# Altium integrated library TI Amplifiers and Linear Operational Amplifier High Speed.IntLib: 1100 symbols (part 32 of 44)
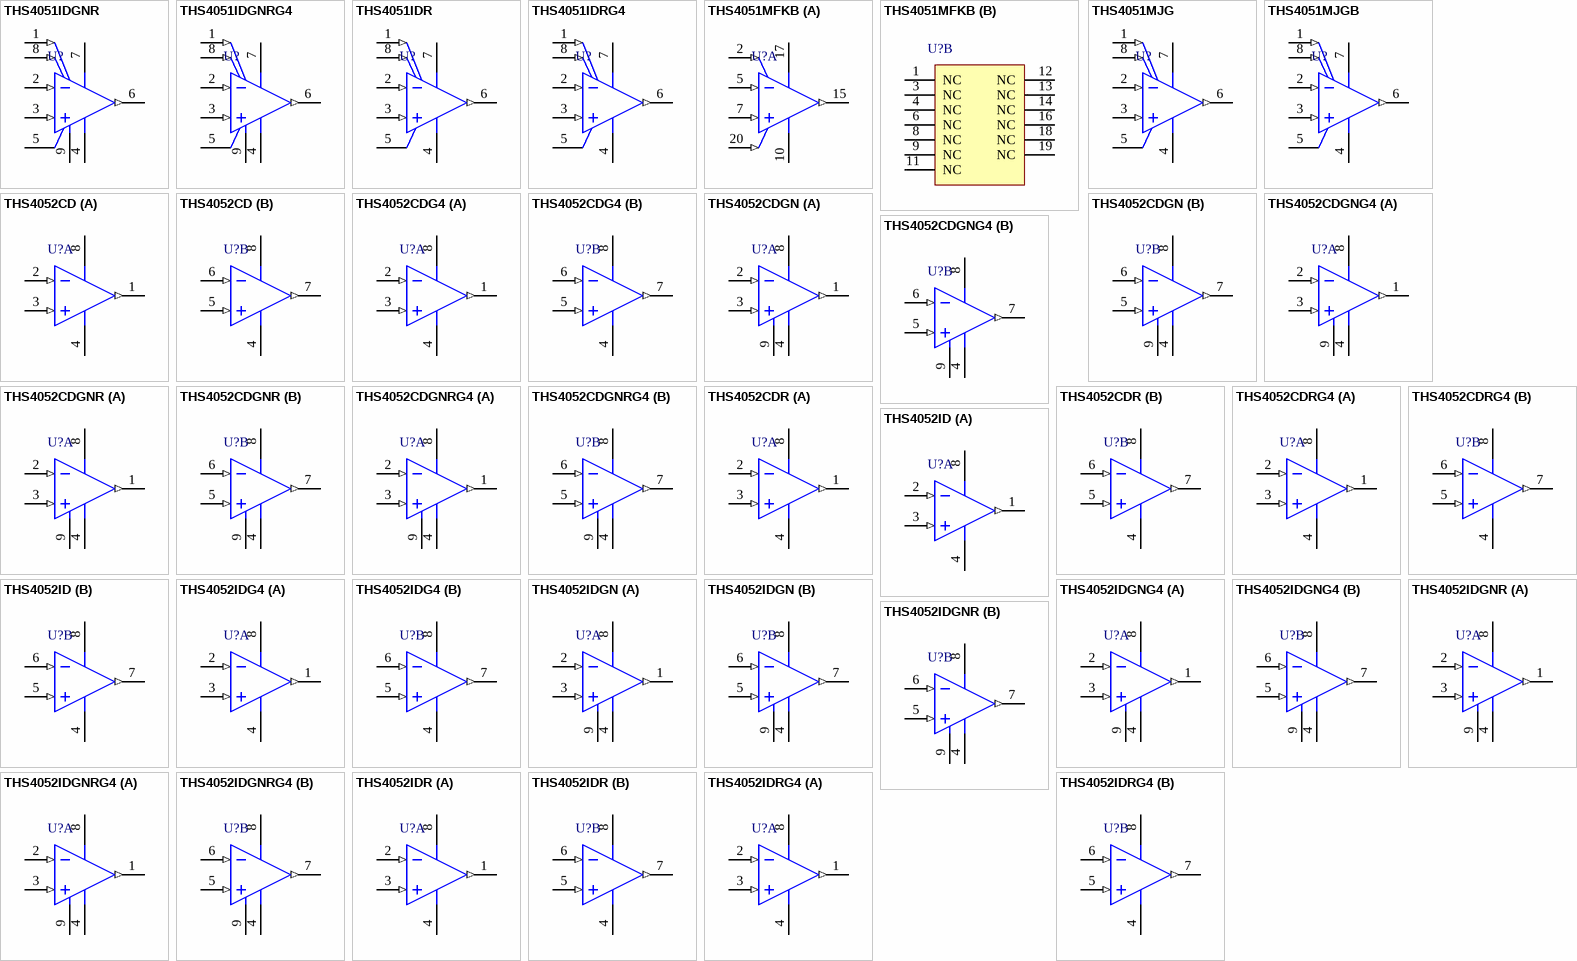
[diagram p82: symbols THS4051IDGNR to THS4052IDRG4]

## THS4052IDG4
designator U?
70 MHz Low-Cost Voltage-Feedback Amplifier, Dual, 9 to 32 V, -40 to 85 degC, 8-pin SOIC (D8), Green (RoHS & no Sb/Br); Manufacturer: Texas Instruments; PartNumber: THS4052IDG4; 2nd Harmonic(dBc): 84; 3rd Harmonic(dBc): 90; @ MHz: 1; BW @ Acl(MHz): 70; Diff Gain(%): 0.01; Iib(Max)(nA): 8000; Io(Typ)(mA): 100; Iq per channel(Max)(mA): 11.5; Number of Channels: 2; Settling Time (0.1%)(Typ)(ns): 60; Slew Rate(Typ)(V/us): 240; Sub Family: High Output Current Amplifier (>=50mA), High Speed Amplifier (>=50MHz), High Supply Voltage Amplifier (>=30V); THD (Fc is 1 MHz)(Typ)(dB): -82; Vio(Max)(mV): 10; Vn at Flatband(Typ)(nV/rtHz): 14; Vs(Max)(V): 32; Vs(Min)(V): 9; DatasheetVersion: SLOS238D; PackageVersion: 4040047-3/M, 06/2011; PackageReference: D8; PackageDescription: 8-Pin Plastic Small Outline, Body 4.9 x 3.9 mm, Pitch 1.27 mm; Supplier 1: Digi-Key; Supplier Part Number 1: THS4052IDG4-ND; Supplier 2: Mouser; Supplier Part Number 2: 595-THS4052IDG4; Acl, min stable gain(V/V): 1; Diff Phase(deg): 0.01; Eco-Plan: Green (RoHS & no Sb/Br); Mounting Technology: Surface Mount; Code_JEDEC: MS-012; ComponentLink1Description: Manufacturer URL; ComponentLink1URL: http://www.ti.com/; ComponentLink2Description: Datasheet; ComponentLink2URL: http://www.ti.com/general/docs/lit/getliterature.tsp?genericPartNumber=THS4052&fileType=pdf; ComponentLink3Description: Package Specification; ComponentLink3URL: http://www.ti.com/litv/pdf/msoi002j
footprint TI-D8_N (SOIC, 8-Leads, Body 4.9x3.9mm, Pitch 1.27mm, IPC Medium Density)
footprint TI-D8_L (SOIC, 8-Leads, Body 4.9x3.9mm, Pitch 1.27mm, IPC High Density)
footprint TI-D8_M (SOIC, 8-Leads, Body 4.9x3.9mm, Pitch 1.27mm, IPC Low Density)
pins on every part: 4 VCC- (power), 8 VCC+ (power)
part A pins: 1 OUT1 (out), 2 IN1- (in), 3 IN1+ (in)
part B pins: 5 IN2+ (in), 6 IN2- (in), 7 OUT2 (out)

## THS4052IDGN
designator U?
70 MHz Low-Cost Voltage-Feedback Amplifier, Dual, 9 to 32 V, -40 to 85 degC, 8-pin SOP (DGN8), Green (RoHS & no Sb/Br); Manufacturer: Texas Instruments; PartNumber: THS4052IDGN; 2nd Harmonic(dBc): 84; 3rd Harmonic(dBc): 90; @ MHz: 1; BW @ Acl(MHz): 70; Diff Gain(%): 0.01; Iib(Max)(nA): 8000; Io(Typ)(mA): 100; Iq per channel(Max)(mA): 11.5; Number of Channels: 2; Settling Time (0.1%)(Typ)(ns): 60; Slew Rate(Typ)(V/us): 240; Sub Family: High Output Current Amplifier (>=50mA), High Speed Amplifier (>=50MHz), High Supply Voltage Amplifier (>=30V); THD (Fc is 1 MHz)(Typ)(dB): -82; Vio(Max)(mV): 10; Vn at Flatband(Typ)(nV/rtHz): 14; Vs(Max)(V): 32; Vs(Min)(V): 9; DatasheetVersion: SLOS238D; PackageVersion: 4073271/F, 05/2011; PackageReference: DGN8-1760X1425TP; PackageDescription: 8-pin Plastic Small Outline, Body 3 x 3 mm, Pitch 0.65 mm; Supplier 1: Digi-Key; Supplier Part Number 1: 296-34209-5-ND; Supplier 2: Newark; Supplier Part Number 2: 76C6348; Supplier 3: Mouser; Supplier Part Number 3: 595-THS4052IDGN; Acl, min stable gain(V/V): 1; Diff Phase(deg): 0.01; Eco-Plan: Green (RoHS & no Sb/Br); Mounting Technology: Surface Mount; Code_JEDEC: MO-187; ComponentLink1Description: Manufacturer URL; ComponentLink1URL: http://www.ti.com/; ComponentLink2Description: Datasheet; ComponentLink2URL: http://www.ti.com/general/docs/lit/getliterature.tsp?genericPartNumber=THS4052&fileType=pdf; ComponentLink3Description: Package Specification; ComponentLink3URL: http://www.ti.com/litv/pdf/mpds046e
footprint TI-DGN8-1760X1425TP_N (SOP, 8-Leads, Body 3x3mm, Pitch 0.65mm, Thermal Pad 1.76x1.425mm, IPC Medium Density)
footprint TI-DGN8-1760X1425TP_L (SOP, 8-Leads, Body 3x3mm, Pitch 0.65mm, Thermal Pad 1.76x1.425mm, IPC High Density)
footprint TI-DGN8-1760X1425TP_M (SOP, 8-Leads, Body 3x3mm, Pitch 0.65mm, Thermal Pad 1.76 x 1.425 mm, IPC Low Density)
pins on every part: 4 VCC- (power), 8 VCC+ (power), 9 EP
part A pins: 1 OUT1 (out), 2 IN1- (in), 3 IN1+ (in)
part B pins: 5 IN2+ (in), 6 IN2- (in), 7 OUT2 (out)

## THS4052IDGNG4
designator U?
70 MHz Low-Cost Voltage-Feedback Amplifier, Dual, 9 to 32 V, -40 to 85 degC, 8-pin SOP (DGN8), Green (RoHS & no Sb/Br); Manufacturer: Texas Instruments; PartNumber: THS4052IDGNG4; 2nd Harmonic(dBc): 84; 3rd Harmonic(dBc): 90; @ MHz: 1; BW @ Acl(MHz): 70; Diff Gain(%): 0.01; Iib(Max)(nA): 8000; Io(Typ)(mA): 100; Iq per channel(Max)(mA): 11.5; Number of Channels: 2; Settling Time (0.1%)(Typ)(ns): 60; Slew Rate(Typ)(V/us): 240; Sub Family: High Output Current Amplifier (>=50mA), High Speed Amplifier (>=50MHz), High Supply Voltage Amplifier (>=30V); THD (Fc is 1 MHz)(Typ)(dB): -82; Vio(Max)(mV): 10; Vn at Flatband(Typ)(nV/rtHz): 14; Vs(Max)(V): 32; Vs(Min)(V): 9; DatasheetVersion: SLOS238D; PackageVersion: 4073271/F, 05/2011; PackageReference: DGN8-1760X1425TP; PackageDescription: 8-pin Plastic Small Outline, Body 3 x 3 mm, Pitch 0.65 mm; Supplier 1: Digi-Key; Supplier Part Number 1: THS4052IDGNG4-ND; Supplier 2: Mouser; Supplier Part Number 2: 595-THS4052IDGNG4; Acl, min stable gain(V/V): 1; Diff Phase(deg): 0.01; Eco-Plan: Green (RoHS & no Sb/Br); Mounting Technology: Surface Mount; Code_JEDEC: MO-187; ComponentLink1Description: Manufacturer URL; ComponentLink1URL: http://www.ti.com/; ComponentLink2Description: Datasheet; ComponentLink2URL: http://www.ti.com/general/docs/lit/getliterature.tsp?genericPartNumber=THS4052&fileType=pdf; ComponentLink3Description: Package Specification; ComponentLink3URL: http://www.ti.com/litv/pdf/mpds046e
footprint TI-DGN8-1760X1425TP_N (SOP, 8-Leads, Body 3x3mm, Pitch 0.65mm, Thermal Pad 1.76x1.425mm, IPC Medium Density)
footprint TI-DGN8-1760X1425TP_L (SOP, 8-Leads, Body 3x3mm, Pitch 0.65mm, Thermal Pad 1.76x1.425mm, IPC High Density)
footprint TI-DGN8-1760X1425TP_M (SOP, 8-Leads, Body 3x3mm, Pitch 0.65mm, Thermal Pad 1.76 x 1.425 mm, IPC Low Density)
pins on every part: 4 VCC- (power), 8 VCC+ (power), 9 EP
part A pins: 1 OUT1 (out), 2 IN1- (in), 3 IN1+ (in)
part B pins: 5 IN2+ (in), 6 IN2- (in), 7 OUT2 (out)

## THS4052IDGNR
designator U?
70 MHz Low-Cost Voltage-Feedback Amplifier, Dual, 9 to 32 V, -40 to 85 degC, 8-pin SOP (DGN8), Green (RoHS & no Sb/Br); Manufacturer: Texas Instruments; PartNumber: THS4052IDGNR; 2nd Harmonic(dBc): 84; 3rd Harmonic(dBc): 90; @ MHz: 1; BW @ Acl(MHz): 70; Diff Gain(%): 0.01; Iib(Max)(nA): 8000; Io(Typ)(mA): 100; Iq per channel(Max)(mA): 11.5; Number of Channels: 2; Settling Time (0.1%)(Typ)(ns): 60; Slew Rate(Typ)(V/us): 240; Sub Family: High Output Current Amplifier (>=50mA), High Speed Amplifier (>=50MHz), High Supply Voltage Amplifier (>=30V); THD (Fc is 1 MHz)(Typ)(dB): -82; Vio(Max)(mV): 10; Vn at Flatband(Typ)(nV/rtHz): 14; Vs(Max)(V): 32; Vs(Min)(V): 9; DatasheetVersion: SLOS238D; PackageVersion: 4073271/F, 05/2011; PackageReference: DGN8-1760X1425TP; PackageDescription: 8-pin Plastic Small Outline, Body 3 x 3 mm, Pitch 0.65 mm; Supplier 1: Digi-Key; Supplier Part Number 1: 296-7540-2-ND; Supplier 2: Digi-Key; Supplier Part Number 2: 296-7540-1-ND; Supplier 3: Digi-Key; Supplier Part Number 3: 296-7540-6-ND; Supplier 4: Mouser; Supplier Part Number 4: 595-THS4052IDGNR; Acl, min stable gain(V/V): 1; Diff Phase(deg): 0.01; Eco-Plan: Green (RoHS & no Sb/Br); Mounting Technology: Surface Mount; Code_JEDEC: MO-187; ComponentLink1Description: Manufacturer URL; ComponentLink1URL: http://www.ti.com/; ComponentLink2Description: Datasheet; ComponentLink2URL: http://www.ti.com/general/docs/lit/getliterature.tsp?genericPartNumber=THS4052&fileType=pdf; ComponentLink3Description: Package Specification; ComponentLink3URL: http://www.ti.com/litv/pdf/mpds046e
footprint TI-DGN8-1760X1425TP_N (SOP, 8-Leads, Body 3x3mm, Pitch 0.65mm, Thermal Pad 1.76x1.425mm, IPC Medium Density)
footprint TI-DGN8-1760X1425TP_L (SOP, 8-Leads, Body 3x3mm, Pitch 0.65mm, Thermal Pad 1.76x1.425mm, IPC High Density)
footprint TI-DGN8-1760X1425TP_M (SOP, 8-Leads, Body 3x3mm, Pitch 0.65mm, Thermal Pad 1.76 x 1.425 mm, IPC Low Density)
pins on every part: 4 VCC- (power), 8 VCC+ (power), 9 EP
part A pins: 1 OUT1 (out), 2 IN1- (in), 3 IN1+ (in)
part B pins: 5 IN2+ (in), 6 IN2- (in), 7 OUT2 (out)

## THS4052IDGNRG4
designator U?
70 MHz Low-Cost Voltage-Feedback Amplifier, Dual, 9 to 32 V, -40 to 85 degC, 8-pin SOP (DGN8), Green (RoHS & no Sb/Br); Manufacturer: Texas Instruments; PartNumber: THS4052IDGNRG4; 2nd Harmonic(dBc): 84; 3rd Harmonic(dBc): 90; @ MHz: 1; BW @ Acl(MHz): 70; Diff Gain(%): 0.01; Iib(Max)(nA): 8000; Io(Typ)(mA): 100; Iq per channel(Max)(mA): 11.5; Number of Channels: 2; Settling Time (0.1%)(Typ)(ns): 60; Slew Rate(Typ)(V/us): 240; Sub Family: High Output Current Amplifier (>=50mA), High Speed Amplifier (>=50MHz), High Supply Voltage Amplifier (>=30V); THD (Fc is 1 MHz)(Typ)(dB): -82; Vio(Max)(mV): 10; Vn at Flatband(Typ)(nV/rtHz): 14; Vs(Max)(V): 32; Vs(Min)(V): 9; DatasheetVersion: SLOS238D; PackageVersion: 4073271/F, 05/2011; PackageReference: DGN8-1760X1425TP; PackageDescription: 8-pin Plastic Small Outline, Body 3 x 3 mm, Pitch 0.65 mm; Supplier 1: Digi-Key; Supplier Part Number 1: THS4052IDGNRG4-ND; Supplier 2: Mouser; Supplier Part Number 2: 595-THS4052IDGNRG4; Acl, min stable gain(V/V): 1; Diff Phase(deg): 0.01; Eco-Plan: Green (RoHS & no Sb/Br); Mounting Technology: Surface Mount; Code_JEDEC: MO-187; ComponentLink1Description: Manufacturer URL; ComponentLink1URL: http://www.ti.com/; ComponentLink2Description: Datasheet; ComponentLink2URL: http://www.ti.com/general/docs/lit/getliterature.tsp?genericPartNumber=THS4052&fileType=pdf; ComponentLink3Description: Package Specification; ComponentLink3URL: http://www.ti.com/litv/pdf/mpds046e
footprint TI-DGN8-1760X1425TP_N (SOP, 8-Leads, Body 3x3mm, Pitch 0.65mm, Thermal Pad 1.76x1.425mm, IPC Medium Density)
footprint TI-DGN8-1760X1425TP_L (SOP, 8-Leads, Body 3x3mm, Pitch 0.65mm, Thermal Pad 1.76x1.425mm, IPC High Density)
footprint TI-DGN8-1760X1425TP_M (SOP, 8-Leads, Body 3x3mm, Pitch 0.65mm, Thermal Pad 1.76 x 1.425 mm, IPC Low Density)
pins on every part: 4 VCC- (power), 8 VCC+ (power), 9 EP
part A pins: 1 OUT1 (out), 2 IN1- (in), 3 IN1+ (in)
part B pins: 5 IN2+ (in), 6 IN2- (in), 7 OUT2 (out)

## THS4052IDR
designator U?
70 MHz Low-Cost Voltage-Feedback Amplifier, Dual, 9 to 32 V, -40 to 85 degC, 8-pin SOIC (D8), Green (RoHS & no Sb/Br); Manufacturer: Texas Instruments; PartNumber: THS4052IDR; 2nd Harmonic(dBc): 84; 3rd Harmonic(dBc): 90; @ MHz: 1; BW @ Acl(MHz): 70; Diff Gain(%): 0.01; Iib(Max)(nA): 8000; Io(Typ)(mA): 100; Iq per channel(Max)(mA): 11.5; Number of Channels: 2; Settling Time (0.1%)(Typ)(ns): 60; Slew Rate(Typ)(V/us): 240; Sub Family: High Output Current Amplifier (>=50mA), High Speed Amplifier (>=50MHz), High Supply Voltage Amplifier (>=30V); THD (Fc is 1 MHz)(Typ)(dB): -82; Vio(Max)(mV): 10; Vn at Flatband(Typ)(nV/rtHz): 14; Vs(Max)(V): 32; Vs(Min)(V): 9; DatasheetVersion: SLOS238D; PackageVersion: 4040047-3/M, 06/2011; PackageReference: D8; PackageDescription: 8-Pin Plastic Small Outline, Body 4.9 x 3.9 mm, Pitch 1.27 mm; Supplier 1: Digi-Key; Supplier Part Number 1: THS4052IDR-ND; Supplier 2: Mouser; Supplier Part Number 2: 595-THS4052IDR; Acl, min stable gain(V/V): 1; Diff Phase(deg): 0.01; Eco-Plan: Green (RoHS & no Sb/Br); Mounting Technology: Surface Mount; Code_JEDEC: MS-012; ComponentLink1Description: Manufacturer URL; ComponentLink1URL: http://www.ti.com/; ComponentLink2Description: Datasheet; ComponentLink2URL: http://www.ti.com/general/docs/lit/getliterature.tsp?genericPartNumber=THS4052&fileType=pdf; ComponentLink3Description: Package Specification; ComponentLink3URL: http://www.ti.com/litv/pdf/msoi002j
footprint TI-D8_N (SOIC, 8-Leads, Body 4.9x3.9mm, Pitch 1.27mm, IPC Medium Density)
footprint TI-D8_L (SOIC, 8-Leads, Body 4.9x3.9mm, Pitch 1.27mm, IPC High Density)
footprint TI-D8_M (SOIC, 8-Leads, Body 4.9x3.9mm, Pitch 1.27mm, IPC Low Density)
pins on every part: 4 VCC- (power), 8 VCC+ (power)
part A pins: 1 OUT1 (out), 2 IN1- (in), 3 IN1+ (in)
part B pins: 5 IN2+ (in), 6 IN2- (in), 7 OUT2 (out)

## THS4052IDRG4
designator U?
70 MHz Low-Cost Voltage-Feedback Amplifier, Dual, 9 to 32 V, -40 to 85 degC, 8-pin SOIC (D8), Green (RoHS & no Sb/Br); Manufacturer: Texas Instruments; PartNumber: THS4052IDRG4; 2nd Harmonic(dBc): 84; 3rd Harmonic(dBc): 90; @ MHz: 1; BW @ Acl(MHz): 70; Diff Gain(%): 0.01; Iib(Max)(nA): 6000; Io(Typ)(mA): 100; Iq per channel(Max)(mA): 10.5; Number of Channels: 2; Settling Time (0.1%)(Typ)(ns): 60; Slew Rate(Typ)(V/us): 240; Sub Family: High Output Current Amplifier (>=50mA), High Speed Amplifier (>=50MHz), High Supply Voltage Amplifier (>=30V); THD (Fc is 1 MHz)(Typ)(dB): -82; Vio(Max)(mV): 10; Vn at Flatband(Typ)(nV/rtHz): 14; Vs(Max)(V): 32; Vs(Min)(V): 9; DatasheetVersion: SLOS238D; PackageVersion: 4040047-3/M, 06/2011; PackageReference: D8; PackageDescription: 8-Pin Plastic Small Outline, Body 4.9 x 3.9 mm, Pitch 1.27 mm; Supplier 1: Digi-Key; Supplier Part Number 1: THS4052IDRG4-ND; Supplier 2: Mouser; Supplier Part Number 2: 595-THS4052IDRG4; Acl, min stable gain(V/V): 1; Diff Phase(deg): 0.01; Eco-Plan: Green (RoHS & no Sb/Br); Mounting Technology: Surface Mount; Code_JEDEC: MS-012; ComponentLink1Description: Manufacturer URL; ComponentLink1URL: http://www.ti.com/; ComponentLink2Description: Datasheet; ComponentLink2URL: http://www.ti.com/general/docs/lit/getliterature.tsp?genericPartNumber=THS4052&fileType=pdf; ComponentLink3Description: Package Specification; ComponentLink3URL: http://www.ti.com/litv/pdf/msoi002j
footprint TI-D8_N (SOIC, 8-Leads, Body 4.9x3.9mm, Pitch 1.27mm, IPC Medium Density)
footprint TI-D8_L (SOIC, 8-Leads, Body 4.9x3.9mm, Pitch 1.27mm, IPC High Density)
footprint TI-D8_M (SOIC, 8-Leads, Body 4.9x3.9mm, Pitch 1.27mm, IPC Low Density)
pins on every part: 4 VCC- (power), 8 VCC+ (power)
part A pins: 1 OUT1 (out), 2 IN1- (in), 3 IN1+ (in)
part B pins: 5 IN2+ (in), 6 IN2- (in), 7 OUT2 (out)

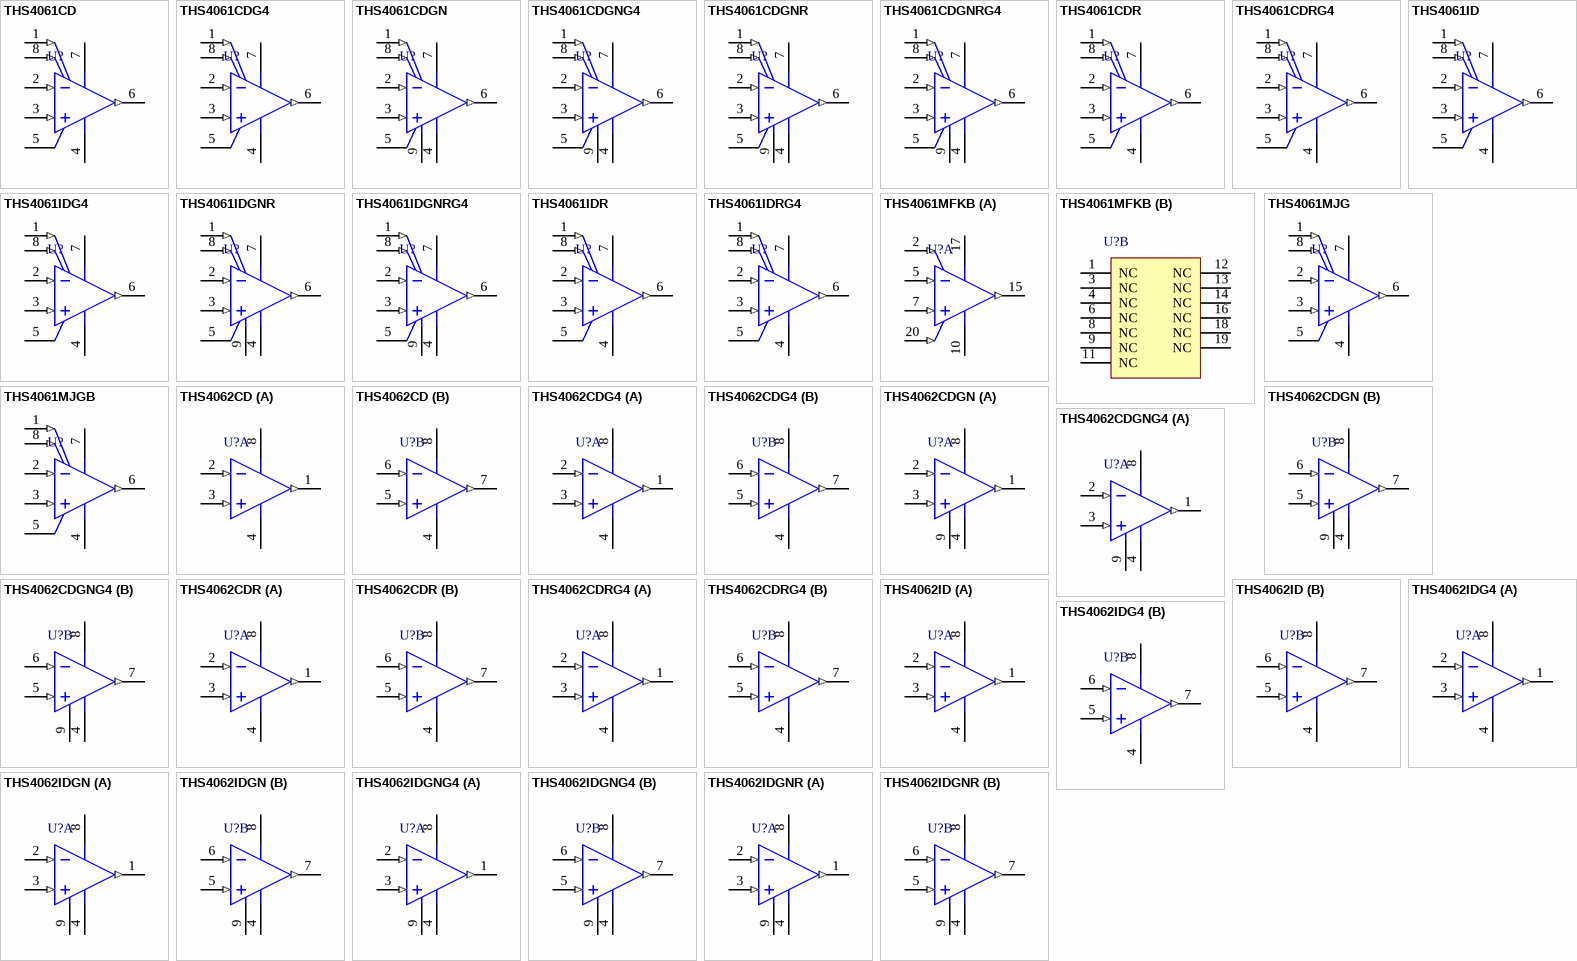
[diagram p37: symbols THS4061CD to THS4062IDGNR]

## THS4061CD
designator U?
180 MHz High Output Drive Voltage-Feedback Amplifier, 9 to 32 V, 0 to 70 degC, 8-pin SOIC (D8), Green (RoHS & no Sb/Br); Manufacturer: Texas Instruments; PartNumber: THS4061CD; 2nd Harmonic(dBc): 73; 3rd Harmonic(dBc): 88; @ MHz: 1; BW @ Acl(MHz): 180; Diff Gain(%): 0.02; Iib(Max)(nA): 6000; Io(Typ)(mA): 115; Iq per channel(Max)(mA): 11; Settling Time (0.1%)(Typ)(ns): 40; Slew Rate(Typ)(V/us): 400; Sub Family: High Output Current Amplifier (>=50mA), High Speed Amplifier (>=50MHz), High Supply Voltage Amplifier (>=30V); THD (Fc is 1 MHz)(Typ)(dB): -72; Vio(Max)(mV): 8; Vn at Flatband(Typ)(nV/rtHz): 14.5; Vs(Max)(V): 30; Vs(Min)(V): 10; DatasheetVersion: SLOS234E; PackageVersion: 4040047-3/M, 06/2011; PackageReference: D8; PackageDescription: 8-Pin Plastic Small Outline, Body 4.9 x 3.9 mm, Pitch 1.27 mm; Supplier 1: Digi-Key; Supplier Part Number 1: 296-2409-5-ND; Supplier 2: Newark; Supplier Part Number 2: 19C8976; Supplier 3: Mouser; Supplier Part Number 3: 595-THS4061CD; Acl, min stable gain(V/V): 1; Diff Phase(deg): 0.02; Eco-Plan: Green (RoHS & no Sb/Br); Number of Channels: 1; Mounting Technology: Surface Mount; Code_JEDEC: MS-012; ComponentLink1Description: Manufacturer URL; ComponentLink1URL: http://www.ti.com/; ComponentLink2Description: Datasheet; ComponentLink2URL: http://www.ti.com/general/docs/lit/getliterature.tsp?genericPartNumber=THS4061&fileType=pdf; ComponentLink3Description: Package Specification; ComponentLink3URL: http://www.ti.com/litv/pdf/msoi002j
footprint TI-D8_N (SOIC, 8-Leads, Body 4.9x3.9mm, Pitch 1.27mm, IPC Medium Density)
footprint TI-D8_L (SOIC, 8-Leads, Body 4.9x3.9mm, Pitch 1.27mm, IPC High Density)
footprint TI-D8_M (SOIC, 8-Leads, Body 4.9x3.9mm, Pitch 1.27mm, IPC Low Density)
pins: 1 NULL (in), 2 IN- (in), 3 IN+ (in), 4 VCC- (power), 5 NC, 6 OUT (out), 7 VCC+ (power), 8 NULL (in)

## THS4061CDG4
designator U?
180 MHz High Output Drive Voltage-Feedback Amplifier, 9 to 32 V, 0 to 70 degC, 8-pin SOIC (D8), Green (RoHS & no Sb/Br); Manufacturer: Texas Instruments; PartNumber: THS4061CDG4; 2nd Harmonic(dBc): 73; 3rd Harmonic(dBc): 88; @ MHz: 1; BW @ Acl(MHz): 180; Diff Gain(%): 0.02; Iib(Max)(nA): 6000; Io(Typ)(mA): 115; Iq per channel(Max)(mA): 10.5; Settling Time (0.1%)(Typ)(ns): 40; Slew Rate(Typ)(V/us): 400; Sub Family: High Output Current Amplifier (>=50mA), High Speed Amplifier (>=50MHz), High Supply Voltage Amplifier (>=30V); THD (Fc is 1 MHz)(Typ)(dB): -72; Vio(Max)(mV): 8; Vn at Flatband(Typ)(nV/rtHz): 14.5; Vs(Max)(V): 32; Vs(Min)(V): 9; DatasheetVersion: SLOS234E; PackageVersion: 4040047-3/M, 06/2011; PackageReference: D8; PackageDescription: 8-Pin Plastic Small Outline, Body 4.9 x 3.9 mm, Pitch 1.27 mm; Supplier 1: Digi-Key; Supplier Part Number 1: THS4061CDG4-ND; Supplier 2: Newark; Supplier Part Number 2: 54K0751; Supplier 3: Mouser; Supplier Part Number 3: 595-THS4061CDG4; Acl, min stable gain(V/V): 1; Diff Phase(deg): 0.02; Eco-Plan: Green (RoHS & no Sb/Br); Number of Channels: 1; Mounting Technology: Surface Mount; Code_JEDEC: MS-012; ComponentLink1Description: Manufacturer URL; ComponentLink1URL: http://www.ti.com/; ComponentLink2Description: Datasheet; ComponentLink2URL: http://www.ti.com/general/docs/lit/getliterature.tsp?genericPartNumber=THS4061&fileType=pdf; ComponentLink3Description: Package Specification; ComponentLink3URL: http://www.ti.com/litv/pdf/msoi002j
footprint TI-D8_N (SOIC, 8-Leads, Body 4.9x3.9mm, Pitch 1.27mm, IPC Medium Density)
footprint TI-D8_L (SOIC, 8-Leads, Body 4.9x3.9mm, Pitch 1.27mm, IPC High Density)
footprint TI-D8_M (SOIC, 8-Leads, Body 4.9x3.9mm, Pitch 1.27mm, IPC Low Density)
pins: 1 NULL (in), 2 IN- (in), 3 IN+ (in), 4 VCC- (power), 5 NC, 6 OUT (out), 7 VCC+ (power), 8 NULL (in)

## THS4061CDGN
designator U?
180 MHz High Output Drive Voltage-Feedback Amplifier, 9 to 32 V, 0 to 70 degC, 8-pin SOIC (DGN8), Green (RoHS & no Sb/Br); Manufacturer: Texas Instruments; PartNumber: THS4061CDGN; 2nd Harmonic(dBc): 73; 3rd Harmonic(dBc): 88; @ MHz: 1; BW @ Acl(MHz): 180; Diff Gain(%): 0.02; Iib(Max)(nA): 6000; Io(Typ)(mA): 115; Iq per channel(Max)(mA): 11; Settling Time (0.1%)(Typ)(ns): 40; Slew Rate(Typ)(V/us): 400; Sub Family: High Output Current Amplifier (>=50mA), High Speed Amplifier (>=50MHz), High Supply Voltage Amplifier (>=30V); THD (Fc is 1 MHz)(Typ)(dB): -72; Vio(Max)(mV): 8; Vn at Flatband(Typ)(nV/rtHz): 14.5; Vs(Max)(V): 32; Vs(Min)(V): 9; DatasheetVersion: SLOS234E; PackageVersion: 4073271/F, 05/2011; PackageReference: DGN8-1760X1425TP; PackageDescription: 8-pin Plastic Small Outline, Body 3 x 3 mm, Pitch 0.65 mm; Supplier 1: Digi-Key; Supplier Part Number 1: THS4061CDGN-ND; Supplier 2: Newark; Supplier Part Number 2: 76C6351; Supplier 3: Mouser; Supplier Part Number 3: 595-THS4061CDGN; Acl, min stable gain(V/V): 1; Diff Phase(deg): 0.02; Eco-Plan: Green (RoHS & no Sb/Br); Number of Channels: 1; Mounting Technology: Surface Mount; Code_JEDEC: MO-187; ComponentLink1Description: Manufacturer URL; ComponentLink1URL: http://www.ti.com/; ComponentLink2Description: Datasheet; ComponentLink2URL: http://www.ti.com/general/docs/lit/getliterature.tsp?genericPartNumber=THS4061&fileType=pdf; ComponentLink3Description: Package Specification; ComponentLink3URL: http://www.ti.com/litv/pdf/mpds046e
footprint TI-DGN8-1760X1425TP_N (SOP, 8-Leads, Body 3x3mm, Pitch 0.65mm, Thermal Pad 1.76x1.425mm, IPC Medium Density)
footprint TI-DGN8-1760X1425TP_L (SOP, 8-Leads, Body 3x3mm, Pitch 0.65mm, Thermal Pad 1.76x1.425mm, IPC High Density)
footprint TI-DGN8-1760X1425TP_M (SOP, 8-Leads, Body 3x3mm, Pitch 0.65mm, Thermal Pad 1.76 x 1.425 mm, IPC Low Density)
pins: 1 NULL (in), 2 IN- (in), 3 IN+ (in), 4 VCC- (power), 5 NC, 6 OUT (out), 7 VCC+ (power), 8 NULL (in), 9 EP

## THS4061CDGNG4
designator U?
180 MHz High Output Drive Voltage-Feedback Amplifier, 9 to 32 V, 0 to 70 degC, 8-pin SOIC (DGN8), Green (RoHS & no Sb/Br); Manufacturer: Texas Instruments; PartNumber: THS4061CDGNG4; 2nd Harmonic(dBc): 73; 3rd Harmonic(dBc): 88; @ MHz: 1; BW @ Acl(MHz): 180; Diff Gain(%): 0.02; Iib(Max)(nA): 6000; Io(Typ)(mA): 115; Iq per channel(Max)(mA): 11; Settling Time (0.1%)(Typ)(ns): 40; Slew Rate(Typ)(V/us): 400; Sub Family: High Output Current Amplifier (>=50mA), High Speed Amplifier (>=50MHz), High Supply Voltage Amplifier (>=30V); THD (Fc is 1 MHz)(Typ)(dB): -72; Vio(Max)(mV): 8; Vn at Flatband(Typ)(nV/rtHz): 14.5; Vs(Max)(V): 32; Vs(Min)(V): 9; DatasheetVersion: SLOS234E; PackageVersion: 4073271/F, 05/2011; PackageReference: DGN8-1760X1425TP; PackageDescription: 8-pin Plastic Small Outline, Body 3 x 3 mm, Pitch 0.65 mm; Supplier 1: Digi-Key; Supplier Part Number 1: THS4061CDGNG4-ND; Supplier 2: Mouser; Supplier Part Number 2: 595-THS4061CDGNG4; Acl, min stable gain(V/V): 1; Diff Phase(deg): 0.02; Eco-Plan: Green (RoHS & no Sb/Br); Number of Channels: 1; Mounting Technology: Surface Mount; Code_JEDEC: MO-187; ComponentLink1Description: Manufacturer URL; ComponentLink1URL: http://www.ti.com/; ComponentLink2Description: Datasheet; ComponentLink2URL: http://www.ti.com/general/docs/lit/getliterature.tsp?genericPartNumber=THS4061&fileType=pdf; ComponentLink3Description: Package Specification; ComponentLink3URL: http://www.ti.com/litv/pdf/mpds046e
footprint TI-DGN8-1760X1425TP_N (SOP, 8-Leads, Body 3x3mm, Pitch 0.65mm, Thermal Pad 1.76x1.425mm, IPC Medium Density)
footprint TI-DGN8-1760X1425TP_L (SOP, 8-Leads, Body 3x3mm, Pitch 0.65mm, Thermal Pad 1.76x1.425mm, IPC High Density)
footprint TI-DGN8-1760X1425TP_M (SOP, 8-Leads, Body 3x3mm, Pitch 0.65mm, Thermal Pad 1.76 x 1.425 mm, IPC Low Density)
pins: 1 NULL (in), 2 IN- (in), 3 IN+ (in), 4 VCC- (power), 5 NC, 6 OUT (out), 7 VCC+ (power), 8 NULL (in), 9 EP

## THS4061CDGNR
designator U?
180 MHz High Output Drive Voltage-Feedback Amplifier, 9 to 32 V, 0 to 70 degC, 8-pin SOIC (DGN8), Green (RoHS & no Sb/Br); Manufacturer: Texas Instruments; PartNumber: THS4061CDGNR; 2nd Harmonic(dBc): 73; 3rd Harmonic(dBc): 88; @ MHz: 1; BW @ Acl(MHz): 180; Diff Gain(%): 0.02; Iib(Max)(nA): 6000; Io(Typ)(mA): 115; Iq per channel(Max)(mA): 11; Settling Time (0.1%)(Typ)(ns): 40; Slew Rate(Typ)(V/us): 400; Sub Family: High Output Current Amplifier (>=50mA), High Speed Amplifier (>=50MHz), High Supply Voltage Amplifier (>=30V); THD (Fc is 1 MHz)(Typ)(dB): -72; Vio(Max)(mV): 8; Vn at Flatband(Typ)(nV/rtHz): 14.5; Vs(Max)(V): 32; Vs(Min)(V): 9; DatasheetVersion: SLOS234E; PackageVersion: 4073271/F, 05/2011; PackageReference: DGN8-1760X1425TP; PackageDescription: 8-pin Plastic Small Outline, Body 3 x 3 mm, Pitch 0.65 mm; Supplier 1: Digi-Key; Supplier Part Number 1: 296-13341-2-ND; Supplier 2: Digi-Key; Supplier Part Number 2: 296-13341-1-ND; Supplier 3: Digi-Key; Supplier Part Number 3: 296-13341-6-ND; Supplier 4: Mouser; Supplier Part Number 4: 595-THS4061CDGNR; Acl, min stable gain(V/V): 1; Diff Phase(deg): 0.02; Eco-Plan: Green (RoHS & no Sb/Br); Number of Channels: 1; Mounting Technology: Surface Mount; Code_JEDEC: MO-187; ComponentLink1Description: Manufacturer URL; ComponentLink1URL: http://www.ti.com/; ComponentLink2Description: Datasheet; ComponentLink2URL: http://www.ti.com/general/docs/lit/getliterature.tsp?genericPartNumber=THS4061&fileType=pdf; ComponentLink3Description: Package Specification; ComponentLink3URL: http://www.ti.com/litv/pdf/mpds046e
footprint TI-DGN8-1760X1425TP_N (SOP, 8-Leads, Body 3x3mm, Pitch 0.65mm, Thermal Pad 1.76x1.425mm, IPC Medium Density)
footprint TI-DGN8-1760X1425TP_L (SOP, 8-Leads, Body 3x3mm, Pitch 0.65mm, Thermal Pad 1.76x1.425mm, IPC High Density)
footprint TI-DGN8-1760X1425TP_M (SOP, 8-Leads, Body 3x3mm, Pitch 0.65mm, Thermal Pad 1.76 x 1.425 mm, IPC Low Density)
pins: 1 NULL (in), 2 IN- (in), 3 IN+ (in), 4 VCC- (power), 5 NC, 6 OUT (out), 7 VCC+ (power), 8 NULL (in), 9 EP

## THS4061CDGNRG4
designator U?
180 MHz High Output Drive Voltage-Feedback Amplifier, 9 to 32 V, 0 to 70 degC, 8-pin SOIC (DGN8), Green (RoHS & no Sb/Br); Manufacturer: Texas Instruments; PartNumber: THS4061CDGNRG4; 2nd Harmonic(dBc): 73; 3rd Harmonic(dBc): 88; @ MHz: 1; BW @ Acl(MHz): 180; Diff Gain(%): 0.02; Iib(Max)(nA): 6000; Io(Typ)(mA): 115; Iq per channel(Max)(mA): 11; Settling Time (0.1%)(Typ)(ns): 40; Slew Rate(Typ)(V/us): 400; Sub Family: High Output Current Amplifier (>=50mA), High Speed Amplifier (>=50MHz), High Supply Voltage Amplifier (>=30V); THD (Fc is 1 MHz)(Typ)(dB): -72; Vio(Max)(mV): 8; Vn at Flatband(Typ)(nV/rtHz): 14.5; Vs(Max)(V): 32; Vs(Min)(V): 9; DatasheetVersion: SLOS234E; PackageVersion: 4073271/F, 05/2011; PackageReference: DGN8-1760X1425TP; PackageDescription: 8-pin Plastic Small Outline, Body 3 x 3 mm, Pitch 0.65 mm; Supplier 1: Digi-Key; Supplier Part Number 1: THS4061CDGNRG4-ND; Supplier 2: Mouser; Supplier Part Number 2: 595-THS4061CDGNRG4; Acl, min stable gain(V/V): 1; Diff Phase(deg): 0.02; Eco-Plan: Green (RoHS & no Sb/Br); Number of Channels: 1; Mounting Technology: Surface Mount; Code_JEDEC: MO-187; ComponentLink1Description: Manufacturer URL; ComponentLink1URL: http://www.ti.com/; ComponentLink2Description: Datasheet; ComponentLink2URL: http://www.ti.com/general/docs/lit/getliterature.tsp?genericPartNumber=THS4061&fileType=pdf; ComponentLink3Description: Package Specification; ComponentLink3URL: http://www.ti.com/litv/pdf/mpds046e
footprint TI-DGN8-1760X1425TP_N (SOP, 8-Leads, Body 3x3mm, Pitch 0.65mm, Thermal Pad 1.76x1.425mm, IPC Medium Density)
footprint TI-DGN8-1760X1425TP_L (SOP, 8-Leads, Body 3x3mm, Pitch 0.65mm, Thermal Pad 1.76x1.425mm, IPC High Density)
footprint TI-DGN8-1760X1425TP_M (SOP, 8-Leads, Body 3x3mm, Pitch 0.65mm, Thermal Pad 1.76 x 1.425 mm, IPC Low Density)
pins: 1 NULL (in), 2 IN- (in), 3 IN+ (in), 4 VCC- (power), 5 NC, 6 OUT (out), 7 VCC+ (power), 8 NULL (in), 9 EP

## THS4061CDR
designator U?
180 MHz High Output Drive Voltage-Feedback Amplifier, 9 to 32 V, 0 to 70 degC, 8-pin SOIC (D8), Green (RoHS & no Sb/Br); Manufacturer: Texas Instruments; PartNumber: THS4061CDR; 2nd Harmonic(dBc): 73; 3rd Harmonic(dBc): 88; @ MHz: 1; BW @ Acl(MHz): 180; Diff Gain(%): 0.02; Iib(Max)(nA): 6000; Io(Typ)(mA): 115; Iq per channel(Max)(mA): 11; Settling Time (0.1%)(Typ)(ns): 40; Slew Rate(Typ)(V/us): 400; Sub Family: High Output Current Amplifier (>=50mA), High Speed Amplifier (>=50MHz), High Supply Voltage Amplifier (>=30V); THD (Fc is 1 MHz)(Typ)(dB): -72; Vio(Max)(mV): 8; Vn at Flatband(Typ)(nV/rtHz): 14.5; Vs(Max)(V): 32; Vs(Min)(V): 9; DatasheetVersion: SLOS234E; PackageVersion: 4040047-3/M, 06/2011; PackageReference: D8; PackageDescription: 8-Pin Plastic Small Outline, Body 4.9 x 3.9 mm, Pitch 1.27 mm; Supplier 1: Digi-Key; Supplier Part Number 1: THS4061CDR-ND; Supplier 2: Newark; Supplier Part Number 2: 76C6353; Supplier 3: Mouser; Supplier Part Number 3: 595-THS4061CDR; Acl, min stable gain(V/V): 1; Diff Phase(deg): 0.02; Eco-Plan: Green (RoHS & no Sb/Br); Number of Channels: 1; Mounting Technology: Surface Mount; Code_JEDEC: MS-012; ComponentLink1Description: Manufacturer URL; ComponentLink1URL: http://www.ti.com/; ComponentLink2Description: Datasheet; ComponentLink2URL: http://www.ti.com/general/docs/lit/getliterature.tsp?genericPartNumber=THS4061&fileType=pdf; ComponentLink3Description: Package Specification; ComponentLink3URL: http://www.ti.com/litv/pdf/msoi002j
footprint TI-D8_N (SOIC, 8-Leads, Body 4.9x3.9mm, Pitch 1.27mm, IPC Medium Density)
footprint TI-D8_L (SOIC, 8-Leads, Body 4.9x3.9mm, Pitch 1.27mm, IPC High Density)
footprint TI-D8_M (SOIC, 8-Leads, Body 4.9x3.9mm, Pitch 1.27mm, IPC Low Density)
pins: 1 NULL (in), 2 IN- (in), 3 IN+ (in), 4 VCC- (power), 5 NC, 6 OUT (out), 7 VCC+ (power), 8 NULL (in)

## THS4061CDRG4
designator U?
180 MHz High Output Drive Voltage-Feedback Amplifier, 9 to 32 V, 0 to 70 degC, 8-pin SOIC (D8), Green (RoHS & no Sb/Br); Manufacturer: Texas Instruments; PartNumber: THS4061CDRG4; 2nd Harmonic(dBc): 73; 3rd Harmonic(dBc): 88; @ MHz: 1; BW @ Acl(MHz): 180; Diff Gain(%): 0.02; Iib(Max)(nA): 6000; Io(Typ)(mA): 115; Iq per channel(Max)(mA): 11; Settling Time (0.1%)(Typ)(ns): 40; Slew Rate(Typ)(V/us): 400; Sub Family: High Output Current Amplifier (>=50mA), High Speed Amplifier (>=50MHz), High Supply Voltage Amplifier (>=30V); THD (Fc is 1 MHz)(Typ)(dB): -72; Vio(Max)(mV): 8; Vn at Flatband(Typ)(nV/rtHz): 14.5; Vs(Max)(V): 32; Vs(Min)(V): 9; DatasheetVersion: SLOS234E; PackageVersion: 4040047-3/M, 06/2011; PackageReference: D8; PackageDescription: 8-Pin Plastic Small Outline, Body 4.9 x 3.9 mm, Pitch 1.27 mm; Supplier 1: Digi-Key; Supplier Part Number 1: THS4061CDRG4-ND; Supplier 2: Mouser; Supplier Part Number 2: 595-THS4061CDRG4; Acl, min stable gain(V/V): 1; Diff Phase(deg): 0.02; Eco-Plan: Green (RoHS & no Sb/Br); Number of Channels: 1; Mounting Technology: Surface Mount; Code_JEDEC: MS-012; ComponentLink1Description: Manufacturer URL; ComponentLink1URL: http://www.ti.com/; ComponentLink2Description: Datasheet; ComponentLink2URL: http://www.ti.com/general/docs/lit/getliterature.tsp?genericPartNumber=THS4061&fileType=pdf; ComponentLink3Description: Package Specification; ComponentLink3URL: http://www.ti.com/litv/pdf/msoi002j
footprint TI-D8_N (SOIC, 8-Leads, Body 4.9x3.9mm, Pitch 1.27mm, IPC Medium Density)
footprint TI-D8_L (SOIC, 8-Leads, Body 4.9x3.9mm, Pitch 1.27mm, IPC High Density)
footprint TI-D8_M (SOIC, 8-Leads, Body 4.9x3.9mm, Pitch 1.27mm, IPC Low Density)
pins: 1 NULL (in), 2 IN- (in), 3 IN+ (in), 4 VCC- (power), 5 NC, 6 OUT (out), 7 VCC+ (power), 8 NULL (in)

## THS4061ID
designator U?
180 MHz High Output Drive Voltage-Feedback Amplifier, 9 to 32 V, -40 to 85 degC, 8-pin SOIC (D8), Green (RoHS & no Sb/Br); Manufacturer: Texas Instruments; PartNumber: THS4061ID; 2nd Harmonic(dBc): 73; 3rd Harmonic(dBc): 88; @ MHz: 1; BW @ Acl(MHz): 180; Diff Gain(%): 0.02; Iib(Max)(nA): 6000; Io(Typ)(mA): 115; Iq per channel(Max)(mA): 11; Settling Time (0.1%)(Typ)(ns): 40; Slew Rate(Typ)(V/us): 400; Sub Family: High Output Current Amplifier (>=50mA), High Speed Amplifier (>=50MHz), High Supply Voltage Amplifier (>=30V); THD (Fc is 1 MHz)(Typ)(dB): -72; Vio(Max)(mV): 8; Vn at Flatband(Typ)(nV/rtHz): 14.5; Vs(Max)(V): 32; Vs(Min)(V): 9; DatasheetVersion: SLOS234E; PackageVersion: 4040047-3/M, 06/2011; PackageReference: D8; PackageDescription: 8-Pin Plastic Small Outline, Body 4.9 x 3.9 mm, Pitch 1.27 mm; Supplier 1: Digi-Key; Supplier Part Number 1: 296-7541-5-ND; Supplier 2: Mouser; Supplier Part Number 2: 595-THS4061ID; Acl, min stable gain(V/V): 1; Diff Phase(deg): 0.02; Eco-Plan: Green (RoHS & no Sb/Br); Number of Channels: 1; Mounting Technology: Surface Mount; Code_JEDEC: MS-012; ComponentLink1Description: Manufacturer URL; ComponentLink1URL: http://www.ti.com/; ComponentLink2Description: Datasheet; ComponentLink2URL: http://www.ti.com/general/docs/lit/getliterature.tsp?genericPartNumber=THS4061&fileType=pdf; ComponentLink3Description: Package Specification; ComponentLink3URL: http://www.ti.com/litv/pdf/msoi002j
footprint TI-D8_N (SOIC, 8-Leads, Body 4.9x3.9mm, Pitch 1.27mm, IPC Medium Density)
footprint TI-D8_L (SOIC, 8-Leads, Body 4.9x3.9mm, Pitch 1.27mm, IPC High Density)
footprint TI-D8_M (SOIC, 8-Leads, Body 4.9x3.9mm, Pitch 1.27mm, IPC Low Density)
pins: 1 NULL (in), 2 IN- (in), 3 IN+ (in), 4 VCC- (power), 5 NC, 6 OUT (out), 7 VCC+ (power), 8 NULL (in)

## THS4061IDG4
designator U?
180 MHz High Output Drive Voltage-Feedback Amplifier, 9 to 32 V, -40 to 85 degC, 8-pin SOIC (D8), Green (RoHS & no Sb/Br); Manufacturer: Texas Instruments; PartNumber: THS4061IDG4; 2nd Harmonic(dBc): 73; 3rd Harmonic(dBc): 88; @ MHz: 1; BW @ Acl(MHz): 180; Diff Gain(%): 0.02; Iib(Max)(nA): 6000; Io(Typ)(mA): 115; Iq per channel(Max)(mA): 11; Settling Time (0.1%)(Typ)(ns): 40; Slew Rate(Typ)(V/us): 400; Sub Family: High Output Current Amplifier (>=50mA), High Speed Amplifier (>=50MHz), High Supply Voltage Amplifier (>=30V); THD (Fc is 1 MHz)(Typ)(dB): -72; Vio(Max)(mV): 8; Vn at Flatband(Typ)(nV/rtHz): 14.5; Vs(Max)(V): 32; Vs(Min)(V): 9; DatasheetVersion: SLOS234E; PackageVersion: 4040047-3/M, 06/2011; PackageReference: D8; PackageDescription: 8-Pin Plastic Small Outline, Body 4.9 x 3.9 mm, Pitch 1.27 mm; Supplier 1: Digi-Key; Supplier Part Number 1: THS4061IDG4-ND; Supplier 2: Mouser; Supplier Part Number 2: 595-THS4061IDG4; Acl, min stable gain(V/V): 1; Diff Phase(deg): 0.02; Eco-Plan: Green (RoHS & no Sb/Br); Number of Channels: 1; Mounting Technology: Surface Mount; Code_JEDEC: MS-012; ComponentLink1Description: Manufacturer URL; ComponentLink1URL: http://www.ti.com/; ComponentLink2Description: Datasheet; ComponentLink2URL: http://www.ti.com/general/docs/lit/getliterature.tsp?genericPartNumber=THS4061&fileType=pdf; ComponentLink3Description: Package Specification; ComponentLink3URL: http://www.ti.com/litv/pdf/msoi002j
footprint TI-D8_N (SOIC, 8-Leads, Body 4.9x3.9mm, Pitch 1.27mm, IPC Medium Density)
footprint TI-D8_L (SOIC, 8-Leads, Body 4.9x3.9mm, Pitch 1.27mm, IPC High Density)
footprint TI-D8_M (SOIC, 8-Leads, Body 4.9x3.9mm, Pitch 1.27mm, IPC Low Density)
pins: 1 NULL (in), 2 IN- (in), 3 IN+ (in), 4 VCC- (power), 5 NC, 6 OUT (out), 7 VCC+ (power), 8 NULL (in)

## THS4061IDGNR
designator U?
180 MHz High Output Drive Voltage-Feedback Amplifier, 9 to 32 V, -40 to 85 degC, 8-pin SOIC (DGN8), Green (RoHS & no Sb/Br); Manufacturer: Texas Instruments; PartNumber: THS4061IDGNR; 2nd Harmonic(dBc): 73; 3rd Harmonic(dBc): 88; @ MHz: 1; BW @ Acl(MHz): 180; Diff Gain(%): 0.02; Iib(Max)(nA): 6000; Io(Typ)(mA): 115; Iq per channel(Max)(mA): 11; Settling Time (0.1%)(Typ)(ns): 40; Slew Rate(Typ)(V/us): 400; Sub Family: High Output Current Amplifier (>=50mA), High Speed Amplifier (>=50MHz), High Supply Voltage Amplifier (>=30V); THD (Fc is 1 MHz)(Typ)(dB): -72; Vio(Max)(mV): 8; Vn at Flatband(Typ)(nV/rtHz): 14.5; Vs(Max)(V): 32; Vs(Min)(V): 9; DatasheetVersion: SLOS234E; PackageVersion: 4073271/F, 05/2011; PackageReference: DGN8-1760X1425TP; PackageDescription: 8-pin Plastic Small Outline, Body 3 x 3 mm, Pitch 0.65 mm; Supplier 1: Digi-Key; Supplier Part Number 1: 296-13342-2-ND; Supplier 2: Digi-Key; Supplier Part Number 2: 296-13342-1-ND; Supplier 3: Digi-Key; Supplier Part Number 3: 296-13342-6-ND; Supplier 4: Newark; Supplier Part Number 4: 76C6357; Supplier 5: Mouser; Supplier Part Number 5: 595-THS4061IDGNR; Acl, min stable gain(V/V): 1; Diff Phase(deg): 0.02; Eco-Plan: Green (RoHS & no Sb/Br); Number of Channels: 1; Mounting Technology: Surface Mount; Code_JEDEC: MO-187; ComponentLink1Description: Manufacturer URL; ComponentLink1URL: http://www.ti.com/; ComponentLink2Description: Datasheet; ComponentLink2URL: http://www.ti.com/general/docs/lit/getliterature.tsp?genericPartNumber=THS4061&fileType=pdf; ComponentLink3Description: Package Specification; ComponentLink3URL: http://www.ti.com/litv/pdf/mpds046e
footprint TI-DGN8-1760X1425TP_N (SOP, 8-Leads, Body 3x3mm, Pitch 0.65mm, Thermal Pad 1.76x1.425mm, IPC Medium Density)
footprint TI-DGN8-1760X1425TP_L (SOP, 8-Leads, Body 3x3mm, Pitch 0.65mm, Thermal Pad 1.76x1.425mm, IPC High Density)
footprint TI-DGN8-1760X1425TP_M (SOP, 8-Leads, Body 3x3mm, Pitch 0.65mm, Thermal Pad 1.76 x 1.425 mm, IPC Low Density)
pins: 1 NULL (in), 2 IN- (in), 3 IN+ (in), 4 VCC- (power), 5 NC, 6 OUT (out), 7 VCC+ (power), 8 NULL (in), 9 EP

## THS4061IDGNRG4
designator U?
180 MHz High Output Drive Voltage-Feedback Amplifier, 9 to 32 V, -40 to 85 degC, 8-pin SOIC (DGN8), Green (RoHS & no Sb/Br); Manufacturer: Texas Instruments; PartNumber: THS4061IDGNRG4; 2nd Harmonic(dBc): 73; 3rd Harmonic(dBc): 88; @ MHz: 1; BW @ Acl(MHz): 180; Diff Gain(%): 0.02; Iib(Max)(nA): 6000; Io(Typ)(mA): 115; Iq per channel(Max)(mA): 11; Settling Time (0.1%)(Typ)(ns): 40; Slew Rate(Typ)(V/us): 400; Sub Family: High Output Current Amplifier (>=50mA), High Speed Amplifier (>=50MHz), High Supply Voltage Amplifier (>=30V); THD (Fc is 1 MHz)(Typ)(dB): -72; Vio(Max)(mV): 8; Vn at Flatband(Typ)(nV/rtHz): 14.5; Vs(Max)(V): 32; Vs(Min)(V): 9; DatasheetVersion: SLOS234E; PackageVersion: 4073271/F, 05/2011; PackageReference: DGN8-1760X1425TP; PackageDescription: 8-pin Plastic Small Outline, Body 3 x 3 mm, Pitch 0.65 mm; Supplier 1: Digi-Key; Supplier Part Number 1: THS4061IDGNRG4-ND; Supplier 2: Mouser; Supplier Part Number 2: 595-THS4061IDGNRG4; Acl, min stable gain(V/V): 1; Diff Phase(deg): 0.02; Eco-Plan: Green (RoHS & no Sb/Br); Number of Channels: 1; Mounting Technology: Surface Mount; Code_JEDEC: MO-187; ComponentLink1Description: Manufacturer URL; ComponentLink1URL: http://www.ti.com/; ComponentLink2Description: Datasheet; ComponentLink2URL: http://www.ti.com/general/docs/lit/getliterature.tsp?genericPartNumber=THS4061&fileType=pdf; ComponentLink3Description: Package Specification; ComponentLink3URL: http://www.ti.com/litv/pdf/mpds046e
footprint TI-DGN8-1760X1425TP_N (SOP, 8-Leads, Body 3x3mm, Pitch 0.65mm, Thermal Pad 1.76x1.425mm, IPC Medium Density)
footprint TI-DGN8-1760X1425TP_L (SOP, 8-Leads, Body 3x3mm, Pitch 0.65mm, Thermal Pad 1.76x1.425mm, IPC High Density)
footprint TI-DGN8-1760X1425TP_M (SOP, 8-Leads, Body 3x3mm, Pitch 0.65mm, Thermal Pad 1.76 x 1.425 mm, IPC Low Density)
pins: 1 NULL (in), 2 IN- (in), 3 IN+ (in), 4 VCC- (power), 5 NC, 6 OUT (out), 7 VCC+ (power), 8 NULL (in), 9 EP

## THS4061IDR
designator U?
180 MHz High Output Drive Voltage-Feedback Amplifier, 9 to 32 V, -40 to 85 degC, 8-pin SOIC (D8), Green (RoHS & no Sb/Br); Manufacturer: Texas Instruments; PartNumber: THS4061IDR; 2nd Harmonic(dBc): 73; 3rd Harmonic(dBc): 88; @ MHz: 1; BW @ Acl(MHz): 180; Diff Gain(%): 0.02; Iib(Max)(nA): 6000; Io(Typ)(mA): 115; Iq per channel(Max)(mA): 11; Settling Time (0.1%)(Typ)(ns): 40; Slew Rate(Typ)(V/us): 400; Sub Family: High Output Current Amplifier (>=50mA), High Speed Amplifier (>=50MHz), High Supply Voltage Amplifier (>=30V); THD (Fc is 1 MHz)(Typ)(dB): -72; Vio(Max)(mV): 8; Vn at Flatband(Typ)(nV/rtHz): 14.5; Vs(Max)(V): 32; Vs(Min)(V): 9; DatasheetVersion: SLOS234E; PackageVersion: 4040047-3/M, 06/2011; PackageReference: D8; PackageDescription: 8-Pin Plastic Small Outline, Body 4.9 x 3.9 mm, Pitch 1.27 mm; Supplier 1: Digi-Key; Supplier Part Number 1: THS4061IDR-ND; Supplier 2: Mouser; Supplier Part Number 2: 595-THS4061IDR; Acl, min stable gain(V/V): 1; Diff Phase(deg): 0.02; Eco-Plan: Green (RoHS & no Sb/Br); Number of Channels: 1; Mounting Technology: Surface Mount; Code_JEDEC: MS-012; ComponentLink1Description: Manufacturer URL; ComponentLink1URL: http://www.ti.com/; ComponentLink2Description: Datasheet; ComponentLink2URL: http://www.ti.com/general/docs/lit/getliterature.tsp?genericPartNumber=THS4061&fileType=pdf; ComponentLink3Description: Package Specification; ComponentLink3URL: http://www.ti.com/litv/pdf/msoi002j
footprint TI-D8_N (SOIC, 8-Leads, Body 4.9x3.9mm, Pitch 1.27mm, IPC Medium Density)
footprint TI-D8_L (SOIC, 8-Leads, Body 4.9x3.9mm, Pitch 1.27mm, IPC High Density)
footprint TI-D8_M (SOIC, 8-Leads, Body 4.9x3.9mm, Pitch 1.27mm, IPC Low Density)
pins: 1 NULL (in), 2 IN- (in), 3 IN+ (in), 4 VCC- (power), 5 NC, 6 OUT (out), 7 VCC+ (power), 8 NULL (in)

## THS4061IDRG4
designator U?
180 MHz High Output Drive Voltage-Feedback Amplifier, 9 to 32 V, -40 to 85 degC, 8-pin SOIC (D8), Green (RoHS & no Sb/Br); Manufacturer: Texas Instruments; PartNumber: THS4061IDRG4; 2nd Harmonic(dBc): 73; 3rd Harmonic(dBc): 88; @ MHz: 1; BW @ Acl(MHz): 180; Diff Gain(%): 0.02; Iib(Max)(nA): 6000; Io(Typ)(mA): 115; Iq per channel(Max)(mA): 11; Settling Time (0.1%)(Typ)(ns): 40; Slew Rate(Typ)(V/us): 400; Sub Family: High Output Current Amplifier (>=50mA), High Speed Amplifier (>=50MHz), High Supply Voltage Amplifier (>=30V); THD (Fc is 1 MHz)(Typ)(dB): -72; Vio(Max)(mV): 8; Vn at Flatband(Typ)(nV/rtHz): 14.5; Vs(Max)(V): 32; Vs(Min)(V): 9; DatasheetVersion: SLOS234E; PackageVersion: 4040047-3/M, 06/2011; PackageReference: D8; PackageDescription: 8-Pin Plastic Small Outline, Body 4.9 x 3.9 mm, Pitch 1.27 mm; Supplier 1: Digi-Key; Supplier Part Number 1: THS4061IDRG4-ND; Supplier 2: Mouser; Supplier Part Number 2: 595-THS4061IDRG4; Acl, min stable gain(V/V): 1; Diff Phase(deg): 0.02; Eco-Plan: Green (RoHS & no Sb/Br); Number of Channels: 1; Mounting Technology: Surface Mount; Code_JEDEC: MS-012; ComponentLink1Description: Manufacturer URL; ComponentLink1URL: http://www.ti.com/; ComponentLink2Description: Datasheet; ComponentLink2URL: http://www.ti.com/general/docs/lit/getliterature.tsp?genericPartNumber=THS4061&fileType=pdf; ComponentLink3Description: Package Specification; ComponentLink3URL: http://www.ti.com/litv/pdf/msoi002j
footprint TI-D8_N (SOIC, 8-Leads, Body 4.9x3.9mm, Pitch 1.27mm, IPC Medium Density)
footprint TI-D8_L (SOIC, 8-Leads, Body 4.9x3.9mm, Pitch 1.27mm, IPC High Density)
footprint TI-D8_M (SOIC, 8-Leads, Body 4.9x3.9mm, Pitch 1.27mm, IPC Low Density)
pins: 1 NULL (in), 2 IN- (in), 3 IN+ (in), 4 VCC- (power), 5 NC, 6 OUT (out), 7 VCC+ (power), 8 NULL (in)

## THS4061MFKB
designator U?
180 MHz High-Speed Amplifier, 9 to 32 V, -55 to 125 degC, 20-pin LCC (FK20); Manufacturer: Texas Instruments; PartNumber: THS4061MFKB; 2nd Harmonic(dBc): 73; 3rd Harmonic(dBc): 88; @ MHz: 1; BW @ Acl(MHz): 180; Diff Gain(%): 0.02; Iib(Max)(nA): 6000; Io(Typ)(mA): 115; Iq per channel(Max)(mA): 11; Settling Time (0.1%)(Typ)(ns): 40; Slew Rate(Typ)(V/us): 400; Sub Family: High Output Current Amplifier (>=50mA), High Speed Amplifier (>=50MHz), High Supply Voltage Amplifier (>=30V); THD (Fc is 1 MHz)(Typ)(dB): -72; Vio(Max)(mV): 8; Vn at Flatband(Typ)(nV/rtHz): 14.5; Vs(Max)(V): 32; Vs(Min)(V): 9; DatasheetVersion: SLOS234E; PackageVersion: 4040140/D, 01/2011; PackageReference: FK20; PackageDescription: 20-Pin Ceramic, Metal Chip Carrier, Body 8.89 x 8.89 mm, Pitch 1.27 mm; Acl, min stable gain(V/V): 1; Diff Phase(deg): 0.02; Number of Channels: 1; Mounting Technology: Surface Mount; Code_JEDEC: MS-004; ComponentLink1Description: Manufacturer URL; ComponentLink1URL: http://www.ti.com/; ComponentLink2Description: Datasheet; ComponentLink2URL: http://www.ti.com/general/docs/lit/getliterature.tsp?genericPartNumber=THS4061M&fileType=pdf; ComponentLink3Description: Package Specification; ComponentLink3URL: http://www.ti.com/litv/pdf/mlcc006d
footprint TI-FK20_N (Leadless Chip Carrier, 20-Leads, Body 8.9x8.9mm, Pitch 1.27mm, IPC Medium Density)
footprint TI-FK20_L (Leadless Chip Carrier, 20-Leads, Body 8.9x8.9mm, Pitch 1.27mm, IPC High Density)
footprint TI-FK20_M (Leadless Chip Carrier, 20-Leads, Body 8.9x8.9mm, Pitch 1.27mm, IPC Low Density)
part A pins: 2 NULL (in), 5 IN- (in), 7 IN+ (in), 10 VCC- (power), 15 OUT (out), 17 VCC+ (power), 20 NULL (in)
part B pins: 1 NC, 3 NC, 4 NC, 6 NC, 8 NC, 9 NC, 11 NC, 12 NC, 13 NC, 14 NC, 16 NC, 18 NC, 19 NC

## THS4061MJG
designator U?
180 MHz High-Speed Amplifier, 9 to 32 V, -55 to 125 degC, 8-pin DIP (JG8); Manufacturer: Texas Instruments; PartNumber: THS4061MJG; 2nd Harmonic(dBc): 73; 3rd Harmonic(dBc): 88; @ MHz: 1; BW @ Acl(MHz): 180; Diff Gain(%): 0.02; Iib(Max)(nA): 6000; Io(Typ)(mA): 115; Iq per channel(Max)(mA): 11; Settling Time (0.1%)(Typ)(ns): 40; Slew Rate(Typ)(V/us): 400; Sub Family: High Output Current Amplifier (>=50mA), High Speed Amplifier (>=50MHz), High Supply Voltage Amplifier (>=30V); THD (Fc is 1 MHz)(Typ)(dB): -72; Vio(Max)(mV): 8; Vn at Flatband(Typ)(nV/rtHz): 14.5; Vs(Max)(V): 32; Vs(Min)(V): 9; DatasheetVersion: SLOS234E; PackageVersion: 4040107/C, 08/1996; PackageReference: JG8; PackageDescription: 8-Pin Ceramic, Glass In-Line, Body 9.58 x 6.665 mm, Pitch 2.54 mm; Acl, min stable gain(V/V): 1; Diff Phase(deg): 0.02; Number of Channels: 1; Mounting Technology: Through Hole; ComponentLink1Description: Manufacturer URL; ComponentLink1URL: http://www.ti.com/; ComponentLink2Description: Datasheet; ComponentLink2URL: http://www.ti.com/general/docs/lit/getliterature.tsp?genericPartNumber=THS4061M&fileType=pdf; ComponentLink3Description: Package Specification; ComponentLink3URL: http://www.ti.com/litv/pdf/mcer001a
footprint TI-JG8 (DIP, 8-Leads, Body 10.15x7.1mm, Pitch 2.54mm)
pins: 1 NULL (in), 2 IN- (in), 3 IN+ (in), 4 VCC- (power), 5 NC, 6 OUT (out), 7 VCC+ (power), 8 NULL (in)

## THS4061MJGB
designator U?
180 MHz High-Speed Amplifier, 9 to 32 V, -55 to 125 degC, 8-pin DIP (JG8); Manufacturer: Texas Instruments; PartNumber: THS4061MJGB; 2nd Harmonic(dBc): 73; 3rd Harmonic(dBc): 88; @ MHz: 1; BW @ Acl(MHz): 180; Diff Gain(%): 0.02; Iib(Max)(nA): 6000; Io(Typ)(mA): 115; Iq per channel(Max)(mA): 11; Settling Time (0.1%)(Typ)(ns): 40; Slew Rate(Typ)(V/us): 400; Sub Family: High Output Current Amplifier (>=50mA), High Speed Amplifier (>=50MHz), High Supply Voltage Amplifier (>=30V); THD (Fc is 1 MHz)(Typ)(dB): -72; Vio(Max)(mV): 8; Vn at Flatband(Typ)(nV/rtHz): 14.5; Vs(Max)(V): 32; Vs(Min)(V): 9; DatasheetVersion: SLOS234E; PackageVersion: 4040107/C, 08/1996; PackageReference: JG8; PackageDescription: 8-Pin Ceramic, Glass In-Line, Body 9.58 x 6.665 mm, Pitch 2.54 mm; Acl, min stable gain(V/V): 1; Diff Phase(deg): 0.02; Number of Channels: 1; Mounting Technology: Through Hole; ComponentLink1Description: Manufacturer URL; ComponentLink1URL: http://www.ti.com/; ComponentLink2Description: Datasheet; ComponentLink2URL: http://www.ti.com/general/docs/lit/getliterature.tsp?genericPartNumber=THS4061M&fileType=pdf; ComponentLink3Description: Package Specification; ComponentLink3URL: http://www.ti.com/litv/pdf/mcer001a
footprint TI-JG8 (DIP, 8-Leads, Body 10.15x7.1mm, Pitch 2.54mm)
pins: 1 NULL (in), 2 IN- (in), 3 IN+ (in), 4 VCC- (power), 5 NC, 6 OUT (out), 7 VCC+ (power), 8 NULL (in)

## THS4062CD
designator U?
180 MHz High Output Drive Voltage-Feedback Amplifier, Dual, 9 to 32 V, 0 to 70 degC, 8-pin SOIC (D8), Green (RoHS & no Sb/Br); Manufacturer: Texas Instruments; PartNumber: THS4062CD; 2nd Harmonic(dBc): 73; 3rd Harmonic(dBc): 88; @ MHz: 1; BW @ Acl(MHz): 180; Diff Gain(%): 0.02; Iib(Max)(nA): 6000; Io(Typ)(mA): 115; Iq per channel(Max)(mA): 11; Number of Channels: 2; Settling Time (0.1%)(Typ)(ns): 40; Slew Rate(Typ)(V/us): 400; Sub Family: High Output Current Amplifier (>=50mA), High Speed Amplifier (>=50MHz), High Supply Voltage Amplifier (>=30V); THD (Fc is 1 MHz)(Typ)(dB): -72; Vio(Max)(mV): 8; Vn at Flatband(Typ)(nV/rtHz): 14.5; Vs(Max)(V): 32; Vs(Min)(V): 9; DatasheetVersion: SLOS234E; PackageVersion: 4040047-3/M, 06/2011; PackageReference: D8; PackageDescription: 8-Pin Plastic Small Outline, Body 4.9 x 3.9 mm, Pitch 1.27 mm; Supplier 1: Digi-Key; Supplier Part Number 1: 296-7542-5-ND; Supplier 2: Farnell; Supplier Part Number 2: 1102963; Supplier 3: Newark; Supplier Part Number 3: 24C9842; Supplier 4: Mouser; Supplier Part Number 4: 595-THS4062CD; Acl, min stable gain(V/V): 1; Diff Phase(deg): 0.02; Eco-Plan: Green (RoHS & no Sb/Br); Mounting Technology: Surface Mount; Code_JEDEC: MS-012; ComponentLink1Description: Manufacturer URL; ComponentLink1URL: http://www.ti.com/; ComponentLink2Description: Datasheet; ComponentLink2URL: http://www.ti.com/general/docs/lit/getliterature.tsp?genericPartNumber=THS4062&fileType=pdf; ComponentLink3Description: Package Specification; ComponentLink3URL: http://www.ti.com/litv/pdf/msoi002j
footprint TI-D8_N (SOIC, 8-Leads, Body 4.9x3.9mm, Pitch 1.27mm, IPC Medium Density)
footprint TI-D8_L (SOIC, 8-Leads, Body 4.9x3.9mm, Pitch 1.27mm, IPC High Density)
footprint TI-D8_M (SOIC, 8-Leads, Body 4.9x3.9mm, Pitch 1.27mm, IPC Low Density)
pins on every part: 4 VCC- (power), 8 VCC+ (power)
part A pins: 1 OUT1 (out), 2 IN1- (in), 3 IN1+ (in)
part B pins: 5 IN2+ (in), 6 IN2- (in), 7 OUT2 (out)

## THS4062CDG4
designator U?
180 MHz High Output Drive Voltage-Feedback Amplifier, Dual, 9 to 32 V, 0 to 70 degC, 8-pin SOIC (D8), Green (RoHS & no Sb/Br); Manufacturer: Texas Instruments; PartNumber: THS4062CDG4; 2nd Harmonic(dBc): 73; 3rd Harmonic(dBc): 88; @ MHz: 1; BW @ Acl(MHz): 180; Diff Gain(%): 0.02; Iib(Max)(nA): 6000; Io(Typ)(mA): 115; Iq per channel(Max)(mA): 11; Number of Channels: 2; Settling Time (0.1%)(Typ)(ns): 40; Slew Rate(Typ)(V/us): 400; Sub Family: High Output Current Amplifier (>=50mA), High Speed Amplifier (>=50MHz), High Supply Voltage Amplifier (>=30V); THD (Fc is 1 MHz)(Typ)(dB): -72; Vio(Max)(mV): 8; Vn at Flatband(Typ)(nV/rtHz): 14.5; Vs(Max)(V): 32; Vs(Min)(V): 9; DatasheetVersion: SLOS234E; PackageVersion: 4040047-3/M, 06/2011; PackageReference: D8; PackageDescription: 8-Pin Plastic Small Outline, Body 4.9 x 3.9 mm, Pitch 1.27 mm; Supplier 1: Digi-Key; Supplier Part Number 1: THS4062CDG4-ND; Supplier 2: Mouser; Supplier Part Number 2: 595-THS4062CDG4; Acl, min stable gain(V/V): 1; Diff Phase(deg): 0.02; Eco-Plan: Green (RoHS & no Sb/Br); Mounting Technology: Surface Mount; Code_JEDEC: MS-012; ComponentLink1Description: Manufacturer URL; ComponentLink1URL: http://www.ti.com/; ComponentLink2Description: Datasheet; ComponentLink2URL: http://www.ti.com/general/docs/lit/getliterature.tsp?genericPartNumber=THS4062&fileType=pdf; ComponentLink3Description: Package Specification; ComponentLink3URL: http://www.ti.com/litv/pdf/msoi002j
footprint TI-D8_N (SOIC, 8-Leads, Body 4.9x3.9mm, Pitch 1.27mm, IPC Medium Density)
footprint TI-D8_L (SOIC, 8-Leads, Body 4.9x3.9mm, Pitch 1.27mm, IPC High Density)
footprint TI-D8_M (SOIC, 8-Leads, Body 4.9x3.9mm, Pitch 1.27mm, IPC Low Density)
pins on every part: 4 VCC- (power), 8 VCC+ (power)
part A pins: 1 OUT1 (out), 2 IN1- (in), 3 IN1+ (in)
part B pins: 5 IN2+ (in), 6 IN2- (in), 7 OUT2 (out)